# Altium schematic symbol library Schlib1.SchLib: 20 symbols
Pins are listed as number, name and electrical type; pins without a type are passive.

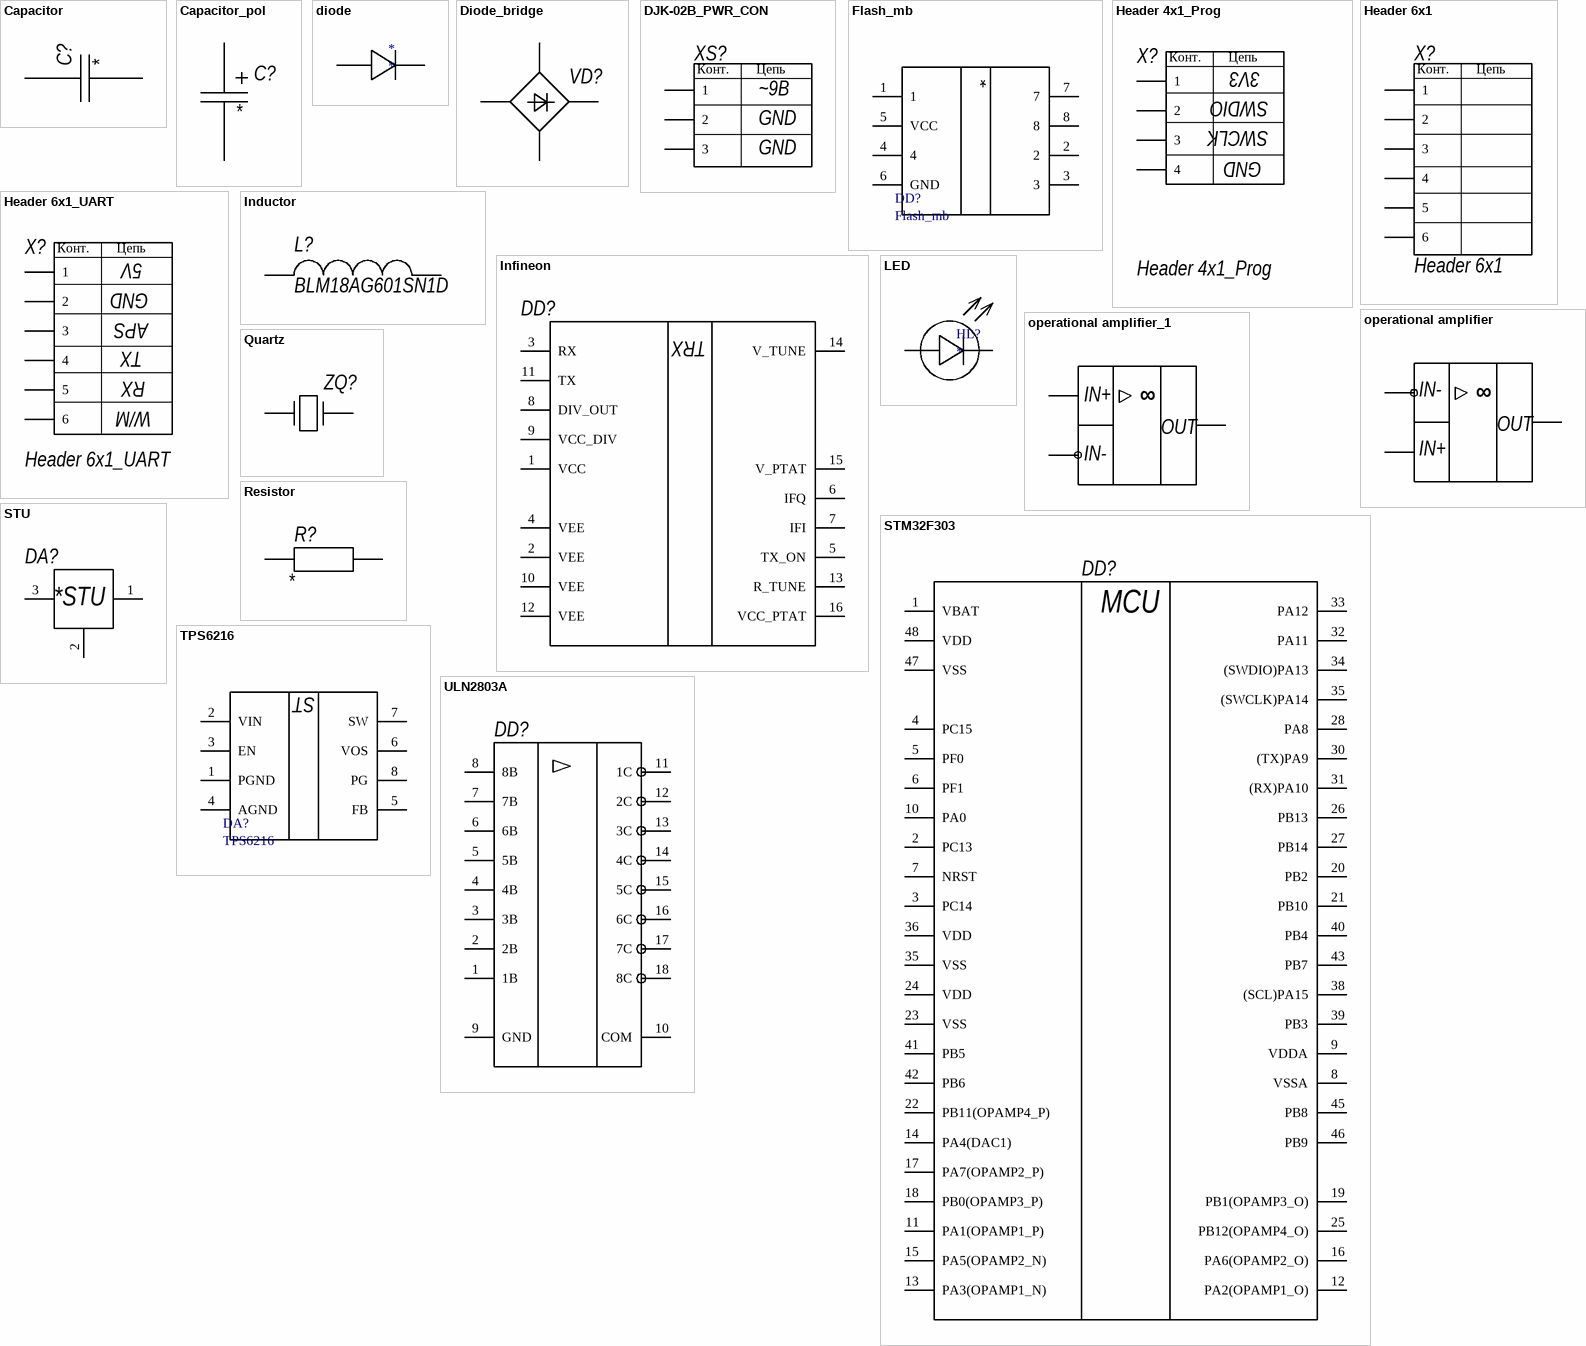
[diagram p0: symbols Capacitor to ULN2803A]

## Capacitor
designator C?
ValueType: Конденсатор; Value: *; Tolerance: *; Dielectric: *; Voltage: *; ESR: *; URL: *; Temp: *; Power: *; Case: *; ValueManufacturer: *; ValueManufacturerPartNumber: *; ValueDescription: *
footprint 0805_CAP
pins: 1, 2

## Capacitor_pol
designator C?
ValueType: Конденсатор; Value: *; Tolerance: *; Dielectric: *; Voltage: *; ESR: *; URL: *; Temp: *; Power: *; Case: *; ValueManufacturer: *; ValueManufacturerPartNumber: *; ValueDescription: *
footprint Pol_CAP
pins: 1, 2
2 alternate drawings of the same symbol

## diode
designator *
pins: 10, 11

## Diode_bridge
designator VD?, comment DF04S  (value not drawn)
Manufacture: Диодный Мост; PartNumber: DF04S; Case: SDIP
footprint Diode_Bridge
pins: 1, 2, 3, 4

## DJK-02B_PWR_CON
designator XS?, comment DJK-02B  (value not drawn)
ValueManufacturer: KLS; ValueType: Разъем питания; URL: *; TEMP: *; Case: *; ValueManufacturerPartNumber: DJK-02B; ValueDescription: DJK-02B
footprint DJK-02B
pins: 1, 2, 3
text: Конт.; Цепь; ~9В; GND

## Flash_mb
designator DD?
pins: 1, 2, 3, 4, 5 VCC, 6 GND, 7, 8

## Header 4x1_Prog
designator X?
ValueType: Разъем; URL: *; TEMP: *; Case: PB5-6
footprint PBS-6
pins: 1, 2, 3, 4
text: Конт.; Цепь; 3V3; SWDIO; SWCLK; GND

## Header 6x1
designator X?
ValueType: Разъем; URL: *; TEMP: *; Case: PB5-6
footprint PBS-6
pins: 1, 2, 3, 4, 5, 6
text: Конт.; Цепь

## Header 6x1_UART
designator X?
ValueType: Разъем; URL: *; TEMP: *; Case: PB5-6
footprint PBS-6
pins: 1, 2, 3, 4, 5, 6
text: Конт.; Цепь; 5V; GND; APS; TX; RX; W/M

## Inductor
designator L?, comment BLM18AG601SN1D
ValueType: Индуктивность; Value: BLM18AG601SN1D; Tolerance: *; Dielectric: *; ESR: *; URL: *; Temp: *; Power: *; Case: *; ValueManufacturer: *; ValueManufacturerPartNumber: *; ValueDescription: *
footprint 0603_IND
pins: 1, 2

## Infineon
designator DD?  (value not drawn)
footprint ULN2803-SOP18
pins: 1 VCC, 2 VEE, 3 RX, 4 VEE, 5 TX_ON, 6 IFQ, 7 IFI, 8 DIV_OUT, 9 VCC_DIV, 10 VEE, 11 TX, 12 VEE, 13 R_TUNE, 14 V_TUNE, 15 V_PTAT, 16 VCC_PTAT
text: TRX

## LED
designator HL?
pins: 10, 11

## operational amplifier
designator *  (value not drawn)
pins: 7, 8, 9
text: ∞; IN-; OUT; IN+

## operational amplifier_1
designator *  (value not drawn)
pins: 7, 8, 9
text: ∞; IN+; OUT; IN-

## Quartz
designator ZQ?
ValueType: Кварцевый резонатор; ValueManufacturer: *; ValueManufacturerPartNumber: *; ValueDescription: *
footprint Quartz
pins: 1, 2

## Resistor
designator R?
ValueType: Резистор; Value: *; Tolerance: *; URL: *; Temp: *; Power: *; Case: *; ValueManufacturerPartNumber: *; ValueDescription: *
footprint 0805_RES
pins: 1, 2

## STM32F303
designator DD?  (value not drawn)
ValueManufacture: ATMEGA; ValueDescription: Микроконтроллер; Case: soic-20(0.295 inch); ValueType: Микроконтроллер; ValueManufacturePartNumber: STM32F303
footprint ATtiny2313-SOP20
pins: 1 VBAT, 2 PC13, 3 PC14, 4 PC15, 5 PF0, 6 PF1, 7 NRST, 8 VSSA, 9 VDDA, 10 PA0, 11 PA1(OPAMP1_P), 12 PA2(OPAMP1_O), 13 PA3(OPAMP1_N), 14 PA4(DAC1), 15 PA5(OPAMP2_N), 16 PA6(OPAMP2_O), 17 PA7(OPAMP2_P), 18 PB0(OPAMP3_P), 19 PB1(OPAMP3_O), 20 PB2, 21 PB10, 22 PB11(OPAMP4_P), 23 VSS, 24 VDD, 25 PB12(OPAMP4_O), 26 PB13, 27 PB14, 28 PA8, 30 (TX)PA9, 31 (RX)PA10, 32 PA11, 33 PA12, 34 (SWDIO)PA13, 35 VSS, 35 (SWCLK)PA14, 36 VDD, 38 (SCL)PA15, 39 PB3, 40 PB4, 41 PB5, 42 PB6, 43 PB7, 45 PB8, 46 PB9, 47 VSS, 48 VDD
text: MCU

## STU
designator DA?, comment 78L05  (value not drawn)
footprint STU
pins: 1, 2, 3
text: *STU

## TPS6216
designator DA?
pins: 1 PGND, 2 VIN, 3 EN, 4 AGND, 5 FB, 6 VOS, 7 SW, 8 PG
text: ST

## ULN2803A
designator DD?  (value not drawn)
footprint ULN2803-SOP18
pins: 1 1В, 2 2В, 3 3В, 4 4В, 5 5В, 6 6В, 7 7В, 8 8В, 9 GND, 10 COM, 11 1С, 12 2С, 13 3С, 14 4C, 15 5С, 16 6С, 17 7С, 18 8С